# EAGLE library part 90814-0806 (library molex)
CONN HEADER 6POS 1.27MM SMD TIN
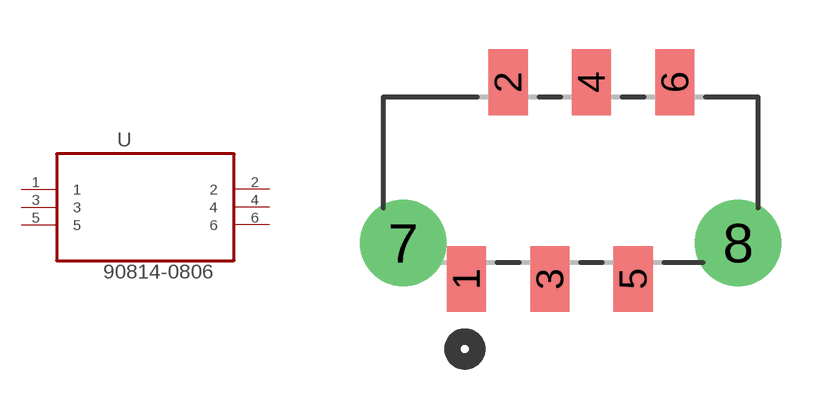
[diagram p58: symbol with the pads of MOLEX_90814-0806; footprint MOLEX_90814-0806]

Designator prefix U

## 90814-0806 (MPN: 90814-0806; OC_FARNELL: 1518210; OC_NEWARK: 74M7854; PACKAGE: CONN-6POS; SUPPLIER: Molex)  [MOLEX_90814-0806]
1  1  pas
2  2  pas
3  3  pas
4  4  pas
5  5  pas
6  6  pas

## Footprint MOLEX_90814-0806 (pad centres in mm)
smd 1.194 x 2.007: 1 0,0; 2 1.27,5.994; 3 2.54,0; 4 3.81,5.994; 5 5.08,0; 6 6.35,5.994
drill 1.753: 7 -1.93,1.092; 8 8.28,1.092